# EAGLE library part XLAMP_COLOR (library freddyLibr)
8 pin 4 color LED from XLAMP
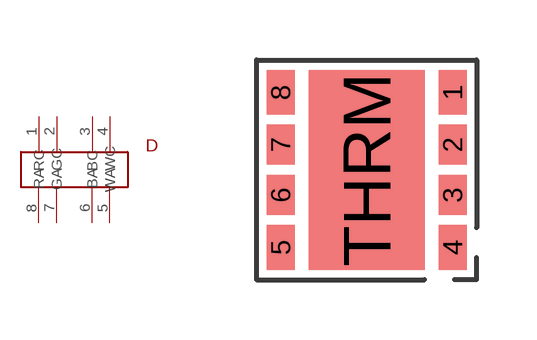
[diagram p1: symbol with the pads of 8-SMD-LED; footprint 8-SMD-LED]

Designator prefix D

## XLAMP_COLOR  [8-SMD-LED]
1  RA
2  GA
3  BA
4  WA
5  WC
6  BC
7  GC
8  RC

## Footprint 8-SMD-LED (pad centres in mm)
smd 0.7 x 1.12: 1 2.15,1.94; 4 2.15,-1.94; 5 -2.15,-1.94; 8 -2.15,1.94
smd 0.7 x 1: 2 2.15,0.63; 3 2.15,-0.63; 6 -2.15,-0.63; 7 -2.15,0.63
smd 2.9 x 5: THRM 0,0